# Altium footprint library Generic Diode THT.PcbLib: 1 footprints
Each footprint in its own frame and in the unit in brackets; x right, y up, seen from the top. Pads: shape width x height; smd on the part's side, far side on the other; paste and mask are expansions set on the pad; w line width, h text height; cw(c..) or ccw(c..) is an arc to the next point about the centre after c.
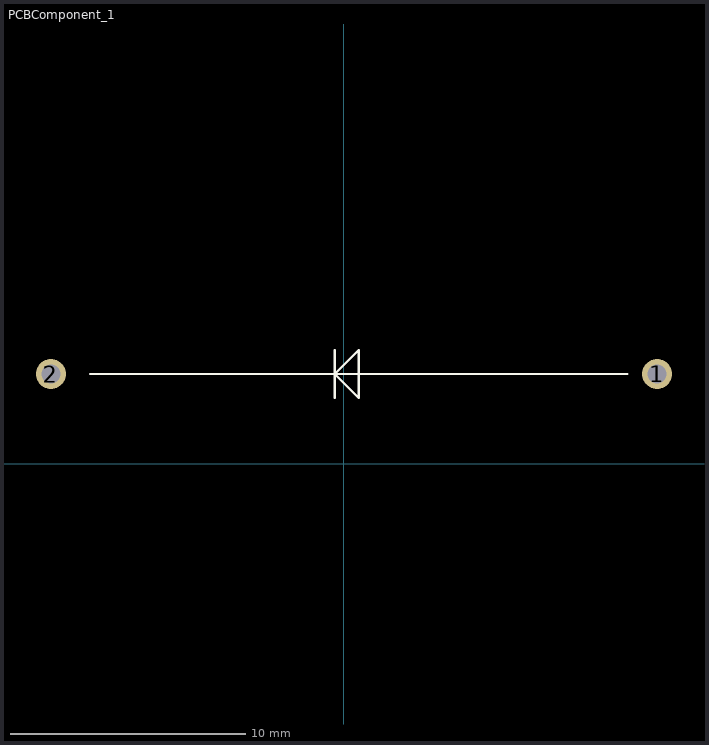
[diagram p0: the footprint, top view; thin cyan lines are the x and y axes]

## PCBComponent_1 [mm]
pads (2):
  round 1.28 hole 0.8: 1(13.335,3.81) 2(-12.465,3.81)
Top Overlay:
  lines w0.1: -10.795,3.81 12.065,3.81 ; -0.381,2.794 -0.381,4.826 ; -0.381,3.81 0.635,2.794 0.635,4.826 -0.381,3.81